# Altium footprint library ADS8688.PcbLib: 5 footprints
Each footprint in its own frame and in the unit in brackets; x right, y up, seen from the top. Pads: shape width x height; smd on the part's side, far side on the other; paste and mask are expansions set on the pad; w line width, h text height; cw(c..) or ccw(c..) is an arc to the next point about the centre after c.
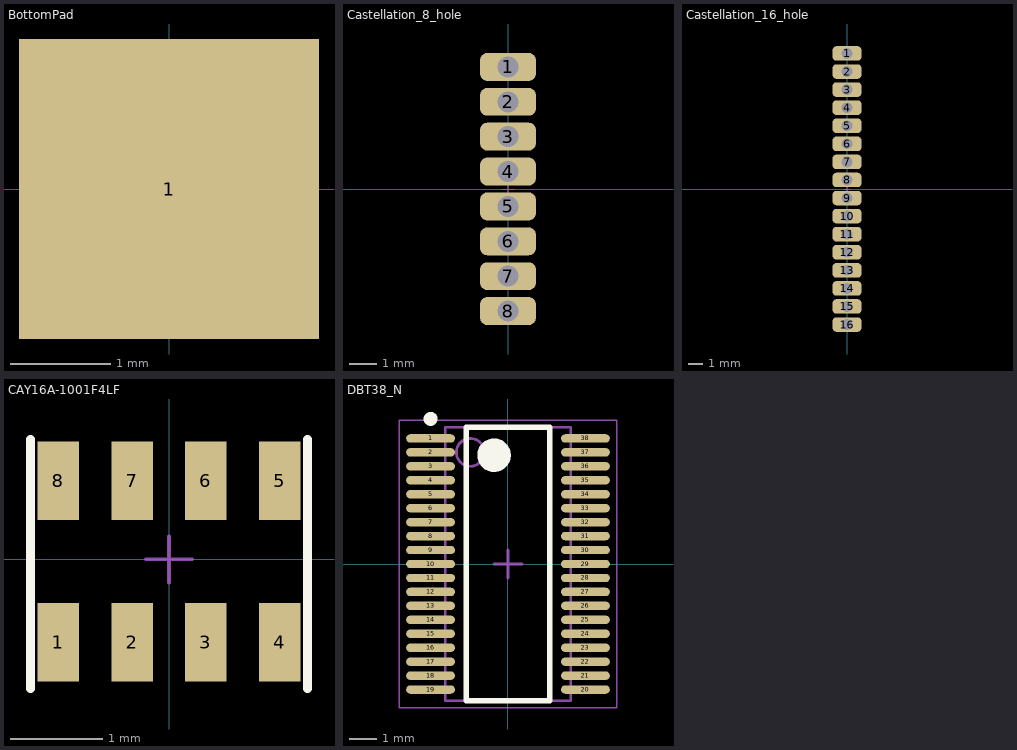
[diagram p0: the footprints below, top view; thin cyan lines are the x and y axes]

## BottomPad [mm]
pads (1):
  rect 3x3 smd: 1(0,0)

## Castellation_8_hole [mil]
pads (8):
  rrect50% 80x40 hole 30: 1(0,175) 2(0,125) 3(0,75) 4(0,25) 5(0,-25) 6(0,-75) 7(0,-125) 8(0,-175)
Mechanical 15:
  lines w1.57: -9.84,0 9.84,0 ; 0,-9.84 0,9.84

## Castellation_16_hole [mil]
pads (16):
  rrect50% 80x40 hole 30: 1(0,375) 2(0,325) 3(0,275) 4(0,225) 5(0,175) 6(0,125) 7(0,75) 8(0,25) 9(0,-25) 10(0,-75) 11(0,-125) 12(0,-175) 13(0,-225) 14(0,-275) 15(0,-325) 16(0,-375)
Mechanical 15:
  lines w1.57: -9.84,0 9.84,0 ; 0,-9.84 0,9.84

## CAY16A-1001F4LF [mm] "1kΩ Register array"
height 0.6
pads (8):
  rect 0.45x0.85 smd: 1(-1.2,-0.9) 2(-0.4,-0.9) 3(0.4,-0.9) 4(1.2,-0.9) 5(1.2,0.85) 6(0.4,0.85) 7(-0.4,0.85) 8(-1.2,0.85)
Top Overlay:
  lines w0.1: -1.5,-1.4 -1.5,1.3 ; 1.5,-1.4 1.5,1.3
Mechanical 15:
  lines w0.04: -0.25,0 0.25,0 ; 0,-0.25 0,0.25
3D body: height 0.25, standoff 0, extent -1.4,-1.2 1.4,1.1

## DBT38_N [mm] "TSSOP, 38-Leads, Body 9.7x4.4mm, Pitch 0.5mm, IPC Medium Density"
height 1.2
pads (38):
  oval 1.75x0.3 smd: 1(-2.775,4.5) 2(-2.775,4) 3(-2.775,3.5) 4(-2.775,3) 5(-2.775,2.5) 6(-2.775,2) 7(-2.775,1.5) 8(-2.775,1) 9(-2.775,0.5) 10(-2.775,0) 11(-2.775,-0.5) 12(-2.775,-1) 13(-2.775,-1.5) 14(-2.775,-2) 15(-2.775,-2.5) 16(-2.775,-3) 17(-2.775,-3.5) 18(-2.775,-4) 19(-2.775,-4.5) 20(2.775,-4.5) 21(2.775,-4) 22(2.775,-3.5) 23(2.775,-3) 24(2.775,-2.5) 25(2.775,-2) 26(2.775,-1.5) 27(2.775,-1) 28(2.775,-0.5) 29(2.775,0) 30(2.775,0.5) 31(2.775,1) 32(2.775,1.5) 33(2.775,2) 34(2.775,2.5) 35(2.775,3) 36(2.775,3.5) 37(2.775,4) 38(2.775,4.5)
Top Overlay:
  circle w0.6: c-0.5,3.9 r0.3
  circle w0.25: c-2.775,5.2 r0.125
  lines w0.2: -1.5,-4.9 1.5,-4.9 1.5,4.9 -1.5,4.9 -1.5,-4.9
Mechanical 13:
  circle w0.1: c-1.35,4 r0.5
  lines w0.1: -2.25,-4.9 2.25,-4.9 2.25,4.9 -2.25,4.9 -2.25,-4.9
Mechanical 15:
  lines w0.05: -3.9,-5.15 3.9,-5.15 3.9,5.15 -3.9,5.15 -3.9,-5.15
  lines w0.1: -0.5,0 0.5,0 ; 0,-0.5 0,0.5
3D body: height 1.2, standoff 0.05, extent -2.25,-4.9 2.25,4.9